# EAGLE library part ULTIMATE_GPS (library LM555-Jessica-Ly)
Adafruit Ultimate GPS Breakout - 66 channel w/10 Hz updates - Version 3 Datasheet <https://www.mouser.com/datasheet/2/737/adafruit_ultimate_gps-779243.pdf> Requires ordering of: 2: 5mm height, 3mm screw standoffs 1: Ultimate GPS 1: Antenna
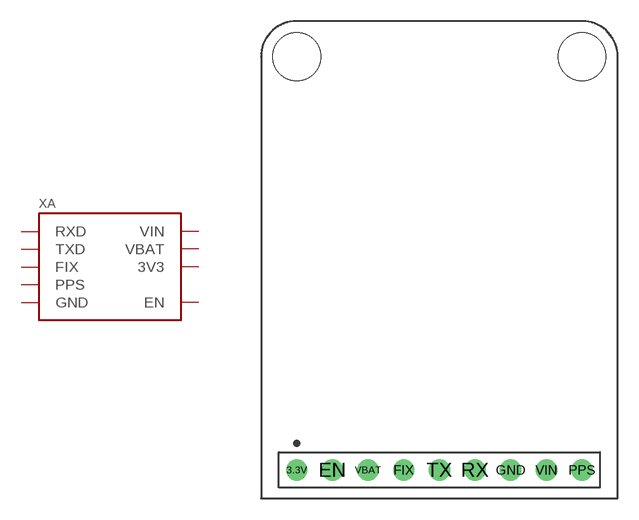
[diagram p35: symbol with the pads of ULTIMATE_GPS; footprint ULTIMATE_GPS]

Designator prefix XA

## ULTIMATE_GPS (DKPN: DW-09-07-G-S-200-ND; MANUFACTURER: Samtec Inc.; MOPN: 200-DW0907GS200; MPN: DW-09-07-G-S-200)  [ULTIMATE_GPS]
3.3V  3V3  pwr
EN  EN  in
FIX  FIX  out
GND  GND  pwr
PPS  PPS  out
RX  RXD  in
TX  TXD  out
VBAT  VBAT  pwr
VIN  VIN  pwr

## Footprint ULTIMATE_GPS (pad centres in mm)
Adafruit Ultimate GPS Breakout - 66 channel w/10 Hz updates - Version 3 Header: 0.1" Pitch Pin Header Datasheet <https://www.mouser.com/datasheet/2/737/adafruit_ultimate_gps-779243.pdf> Header <https://www.mouser.com/datasheet/2/527/dw-2507303.pdf>
drill 1.016: 3.3V -10.16,0; EN -7.62,0; FIX -2.54,0; GND 5.08,0; PPS 10.16,0; RX 2.54,0; TX 0,0; VBAT -5.08,0; VIN 7.62,0
hole 3.4 at -10.16,29.464
hole 3.4 at 10.16,29.464